# Altium footprint library FXIMU.PcbLib: 1 footprints
Each footprint in its own frame and in the unit in brackets; x right, y up, seen from the top. Pads: shape width x height; smd on the part's side, far side on the other; paste and mask are expansions set on the pad; w line width, h text height; cw(c..) or ccw(c..) is an arc to the next point about the centre after c.
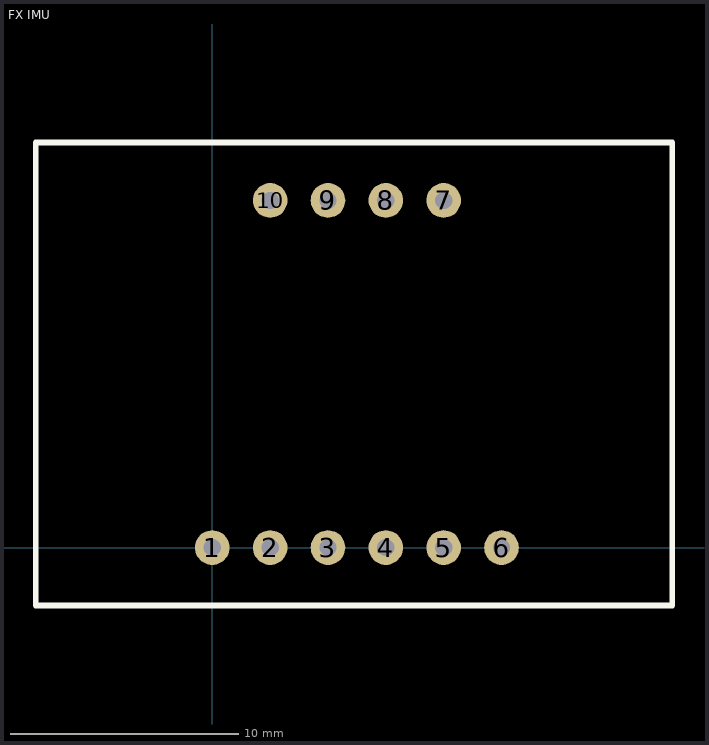
[diagram p0: the footprint, top view; thin cyan lines are the x and y axes]

## FX IMU [mil]
pads (11):
  round 60 hole 30: 1(0,0) 1(0,0) 2(100,0) 3(200,0) 4(300,0) 5(400,0) 6(500,0) 7(400,600) 8(300,600) 9(200,600) 10(100,600)
Top Overlay:
  lines w10: -305,-100 -305,700 795,700 795,-100 -305,-100